# EAGLE library part BMP280 (library icarus_sensors)
Bosch BMP280 presssure sensor
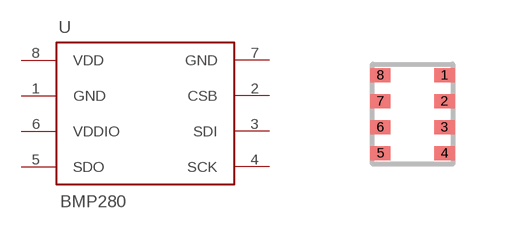
[diagram p3: symbol with the pads of LGA-8; footprint LGA-8]

Designator prefix -

## BMP280_PITCH0.65  [LGA-8]
1  GND
2  CSB
3  SDI
4  SCK
5  SDO
6  VDDIO
7  GND
8  VDD

## Footprint LGA-8 (pad centres in mm)
LGA-8 package with 0.65 pitch 2x2.5mm part dimension for Bosch BMP280 pressure sensor
smd 0.5 x 0.35: 1 0.8,0.975; 2 0.8,0.325; 3 0.8,-0.325; 4 0.8,-0.975; 5 -0.8,-0.975; 6 -0.8,-0.325; 7 -0.8,0.325; 8 -0.8,0.975